# EAGLE library part SN74LVC2G157 (library ds_ic_logic)
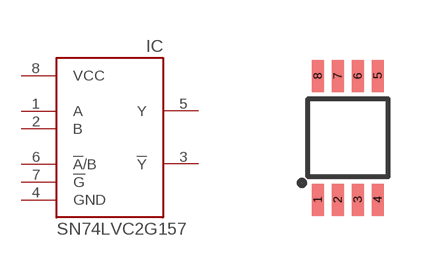
[diagram p6: symbol with the pads of GHI-IC_VSSOP8(TI); footprint GHI-IC_VSSOP8(TI)]

Designator prefix IC

## SN74LVC2G157DCUR (LCSC_PART: C473347; VALUE: SN74LVC2G157DCUR)  [GHI-IC_VSSOP8(TI)]
1  A  in
2  B  in
3  !Y  out
4  GND  pwr
5  Y  out
6  !A!/B  in
7  !G  in
8  VCC  pwr

## Footprint GHI-IC_VSSOP8(TI) (pad centres in mm)
smd 0.3 x 0.8: 1 -0.75,-1.55; 2 -0.25,-1.55; 3 0.25,-1.55; 4 0.75,-1.55; 5 0.75,1.55; 6 0.25,1.55; 7 -0.25,1.55; 8 -0.75,1.55